# Altium footprint library 按键.PcbLib: 69 footprints (part 4 of 5)
Each footprint in its own frame and in the unit in brackets; x right, y up, seen from the top. Pads: shape width x height; smd on the part's side, far side on the other; paste and mask are expansions set on the pad; w line width, h text height; cw(c..) or ccw(c..) is an arc to the next point about the centre after c.
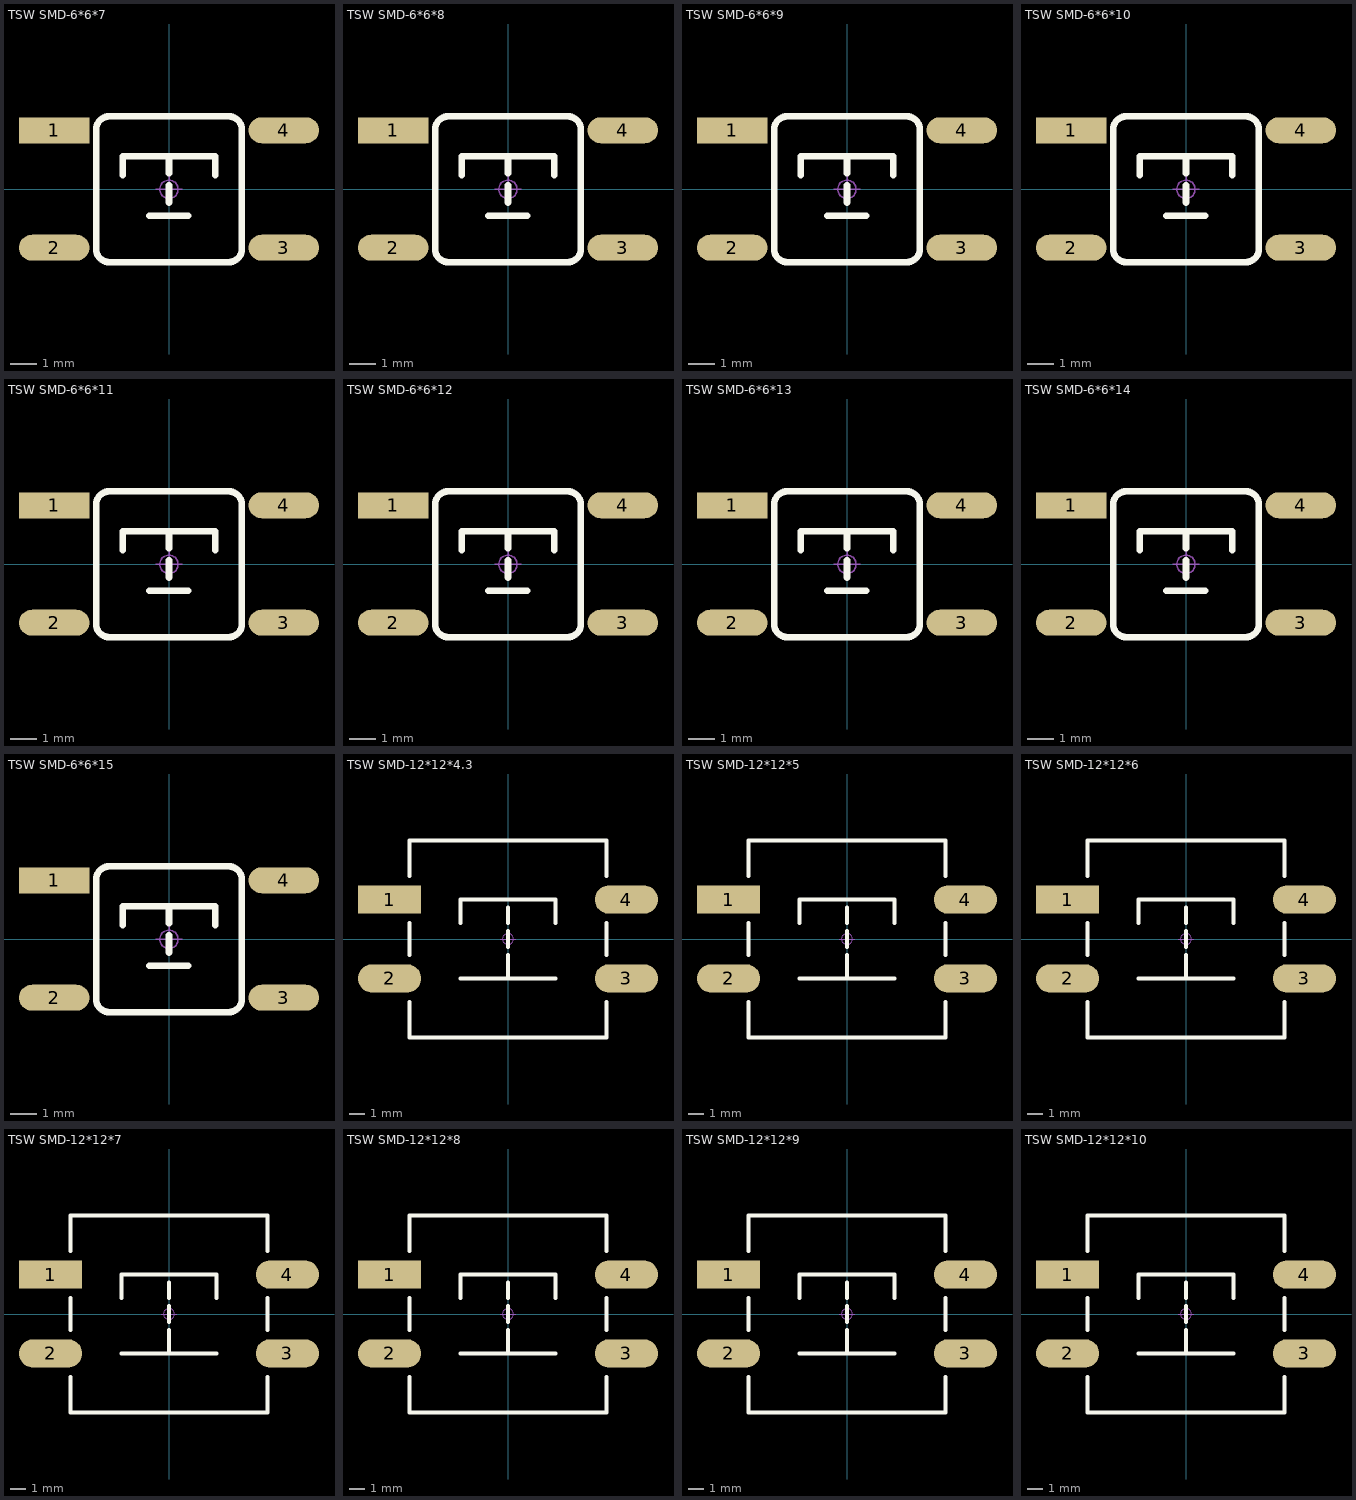
[diagram p3: the footprints below, top view; thin cyan lines are the x and y axes]

## TSW SMD-6*6*7 [mm] "6*6*7mm"
pads (4):
  rect 2.7x1 smd: 1(-4.4,2.261)
  oval 2.7x1 smd: 2(-4.4,-2.239) 3(4.4,-2.239) 4(4.4,2.261)
Top Overlay:
  lines w0.254: -1.778,0.533 -1.778,1.27 1.778,1.27 1.778,0.533 ; -0.762,-1.016 0.737,-1.016 ; 0,-0.508 0,0.152 ; 0,0.61 0,1.27 ; -2.794,-2.286 ccw(c-2.286,-2.286) -2.286,-2.794 2.286,-2.794 ccw(c2.286,-2.286) 2.794,-2.286 2.794,2.286 ccw(c2.286,2.286) 2.286,2.794 -2.286,2.794 ccw(c-2.286,2.286) -2.794,2.286 -2.794,-2.286
Mechanical 15:
  circle w0.05: c0,0 r0.35
  lines w0.05: -0.5,0 0.5,0 ; 0,-0.5 0,0.5
3D body "TSW SMD-6x6x7.STEP": height 6.95, standoff -0.03, extent -4.5,-3 4.5,3

## TSW SMD-6*6*8 [mm] "6*6*8mm"
pads (4):
  rect 2.7x1 smd: 1(-4.4,2.261)
  oval 2.7x1 smd: 2(-4.4,-2.239) 3(4.4,-2.239) 4(4.4,2.261)
Top Overlay:
  lines w0.254: -1.778,0.533 -1.778,1.27 1.778,1.27 1.778,0.533 ; -0.762,-1.016 0.737,-1.016 ; 0,-0.508 0,0.152 ; 0,0.61 0,1.27 ; -2.794,-2.286 ccw(c-2.286,-2.286) -2.286,-2.794 2.286,-2.794 ccw(c2.286,-2.286) 2.794,-2.286 2.794,2.286 ccw(c2.286,2.286) 2.286,2.794 -2.286,2.794 ccw(c-2.286,2.286) -2.794,2.286 -2.794,-2.286
Mechanical 15:
  circle w0.05: c0,0 r0.35
  lines w0.05: -0.5,0 0.5,0 ; 0,-0.5 0,0.5
3D body "TSW SMD-6x6x8.STEP": height 7.95, standoff -0.03, extent -4.5,-3 4.5,3

## TSW SMD-6*6*9 [mm] "6*6*9mm"
pads (4):
  rect 2.7x1 smd: 1(-4.4,2.261)
  oval 2.7x1 smd: 2(-4.4,-2.239) 3(4.4,-2.239) 4(4.4,2.261)
Top Overlay:
  lines w0.254: -1.778,0.533 -1.778,1.27 1.778,1.27 1.778,0.533 ; -0.762,-1.016 0.737,-1.016 ; 0,-0.508 0,0.152 ; 0,0.61 0,1.27 ; -2.794,-2.286 ccw(c-2.286,-2.286) -2.286,-2.794 2.286,-2.794 ccw(c2.286,-2.286) 2.794,-2.286 2.794,2.286 ccw(c2.286,2.286) 2.286,2.794 -2.286,2.794 ccw(c-2.286,2.286) -2.794,2.286 -2.794,-2.286
Mechanical 15:
  circle w0.05: c0,0 r0.35
  lines w0.05: -0.5,0 0.5,0 ; 0,-0.5 0,0.5
3D body "TSW SMD-6x6x9.STEP": height 8.95, standoff -0.03, extent -4.5,-3 4.5,3

## TSW SMD-6*6*10 [mm] "6*6*10mm"
pads (4):
  rect 2.7x1 smd: 1(-4.4,2.261)
  oval 2.7x1 smd: 2(-4.4,-2.239) 3(4.4,-2.239) 4(4.4,2.261)
Top Overlay:
  lines w0.254: -1.778,0.533 -1.778,1.27 1.778,1.27 1.778,0.533 ; -0.762,-1.016 0.737,-1.016 ; 0,-0.508 0,0.152 ; 0,0.61 0,1.27 ; -2.794,-2.286 ccw(c-2.286,-2.286) -2.286,-2.794 2.286,-2.794 ccw(c2.286,-2.286) 2.794,-2.286 2.794,2.286 ccw(c2.286,2.286) 2.286,2.794 -2.286,2.794 ccw(c-2.286,2.286) -2.794,2.286 -2.794,-2.286
Mechanical 15:
  circle w0.05: c0,0 r0.35
  lines w0.05: -0.5,0 0.5,0 ; 0,-0.5 0,0.5
3D body "TSW SMD-6x6x10.STEP": height 9.95, standoff -0.03, extent -4.5,-3 4.5,3

## TSW SMD-6*6*11 [mm] "6*6*11mm"
pads (4):
  rect 2.7x1 smd: 1(-4.4,2.261)
  oval 2.7x1 smd: 2(-4.4,-2.239) 3(4.4,-2.239) 4(4.4,2.261)
Top Overlay:
  lines w0.254: -1.778,0.533 -1.778,1.27 1.778,1.27 1.778,0.533 ; -0.762,-1.016 0.737,-1.016 ; 0,-0.508 0,0.152 ; 0,0.61 0,1.27 ; -2.794,-2.286 ccw(c-2.286,-2.286) -2.286,-2.794 2.286,-2.794 ccw(c2.286,-2.286) 2.794,-2.286 2.794,2.286 ccw(c2.286,2.286) 2.286,2.794 -2.286,2.794 ccw(c-2.286,2.286) -2.794,2.286 -2.794,-2.286
Mechanical 15:
  circle w0.05: c0,0 r0.35
  lines w0.05: -0.5,0 0.5,0 ; 0,-0.5 0,0.5
3D body "TSW SMD-6x6x11.STEP": height 10.95, standoff -0.03, extent -4.5,-3 4.5,3

## TSW SMD-6*6*12 [mm] "6*6*12mm"
pads (4):
  rect 2.7x1 smd: 1(-4.4,2.261)
  oval 2.7x1 smd: 2(-4.4,-2.239) 3(4.4,-2.239) 4(4.4,2.261)
Top Overlay:
  lines w0.254: -1.778,0.533 -1.778,1.27 1.778,1.27 1.778,0.533 ; -0.762,-1.016 0.737,-1.016 ; 0,-0.508 0,0.152 ; 0,0.61 0,1.27 ; -2.794,-2.286 ccw(c-2.286,-2.286) -2.286,-2.794 2.286,-2.794 ccw(c2.286,-2.286) 2.794,-2.286 2.794,2.286 ccw(c2.286,2.286) 2.286,2.794 -2.286,2.794 ccw(c-2.286,2.286) -2.794,2.286 -2.794,-2.286
Mechanical 15:
  circle w0.05: c0,0 r0.35
  lines w0.05: -0.5,0 0.5,0 ; 0,-0.5 0,0.5
3D body "TSW SMD-6x6x12.STEP": height 11.95, standoff -0.03, extent -4.5,-3 4.5,3

## TSW SMD-6*6*13 [mm] "6*6*13mm"
pads (4):
  rect 2.7x1 smd: 1(-4.4,2.261)
  oval 2.7x1 smd: 2(-4.4,-2.239) 3(4.4,-2.239) 4(4.4,2.261)
Top Overlay:
  lines w0.254: -1.778,0.533 -1.778,1.27 1.778,1.27 1.778,0.533 ; -0.762,-1.016 0.737,-1.016 ; 0,-0.508 0,0.152 ; 0,0.61 0,1.27 ; -2.794,-2.286 ccw(c-2.286,-2.286) -2.286,-2.794 2.286,-2.794 ccw(c2.286,-2.286) 2.794,-2.286 2.794,2.286 ccw(c2.286,2.286) 2.286,2.794 -2.286,2.794 ccw(c-2.286,2.286) -2.794,2.286 -2.794,-2.286
Mechanical 15:
  circle w0.05: c0,0 r0.35
  lines w0.05: -0.5,0 0.5,0 ; 0,-0.5 0,0.5
3D body "TSW SMD-6x6x13.STEP": height 12.95, standoff -0.03, extent -4.5,-3 4.5,3

## TSW SMD-6*6*14 [mm] "6*6*14mm"
pads (4):
  rect 2.7x1 smd: 1(-4.4,2.261)
  oval 2.7x1 smd: 2(-4.4,-2.239) 3(4.4,-2.239) 4(4.4,2.261)
Top Overlay:
  lines w0.254: -1.778,0.533 -1.778,1.27 1.778,1.27 1.778,0.533 ; -0.762,-1.016 0.737,-1.016 ; 0,-0.508 0,0.152 ; 0,0.61 0,1.27 ; -2.794,-2.286 ccw(c-2.286,-2.286) -2.286,-2.794 2.286,-2.794 ccw(c2.286,-2.286) 2.794,-2.286 2.794,2.286 ccw(c2.286,2.286) 2.286,2.794 -2.286,2.794 ccw(c-2.286,2.286) -2.794,2.286 -2.794,-2.286
Mechanical 15:
  circle w0.05: c0,0 r0.35
  lines w0.05: -0.5,0 0.5,0 ; 0,-0.5 0,0.5
3D body "TSW SMD-6x6x14.STEP": height 13.95, standoff -0.03, extent -4.5,-3 4.5,3

## TSW SMD-6*6*15 [mm] "6*6*15mm"
pads (4):
  rect 2.7x1 smd: 1(-4.4,2.261)
  oval 2.7x1 smd: 2(-4.4,-2.239) 3(4.4,-2.239) 4(4.4,2.261)
Top Overlay:
  lines w0.254: -1.778,0.533 -1.778,1.27 1.778,1.27 1.778,0.533 ; -0.762,-1.016 0.737,-1.016 ; 0,-0.508 0,0.152 ; 0,0.61 0,1.27 ; -2.794,-2.286 ccw(c-2.286,-2.286) -2.286,-2.794 2.286,-2.794 ccw(c2.286,-2.286) 2.794,-2.286 2.794,2.286 ccw(c2.286,2.286) 2.286,2.794 -2.286,2.794 ccw(c-2.286,2.286) -2.794,2.286 -2.794,-2.286
Mechanical 15:
  circle w0.05: c0,0 r0.35
  lines w0.05: -0.5,0 0.5,0 ; 0,-0.5 0,0.5
3D body "TSW SMD-6x6x15.STEP": height 14.95, standoff -0.03, extent -4.5,-3 4.5,3

## TSW SMD-12*12*4.3 [mm] "12*12*4.3mm"
pads (4):
  rect 4x1.8 smd: 1(-7.5,2.5)
  oval 4x1.8 smd: 2(-7.5,-2.5) 3(7.5,-2.5) 4(7.5,2.5)
Top Overlay:
  lines w0.254: -6.25,-4 -6.25,-6.25 6.25,-6.25 6.25,-4 ; -6.25,-1 -6.25,1 ; -6.25,4 -6.25,6.25 6.25,6.25 6.25,4 ; -3,-2.5 3,-2.5 ; -3,1 -3,2.5 3,2.5 3,1 ; 0,-2.5 0,-1 ; 0,-0.5 0,0.5 ; 0,1 0,2 ; 6.25,-1 6.25,1
Mechanical 15:
  circle w0.05: c0,0 r0.35
  lines w0.05: -0.5,0 0.5,0 ; 0,-0.5 0,0.5
3D body "TSW SMD-12x12x4.3.STEP": height 4.45, standoff 0, extent -7.6,-6 7.6,6

## TSW SMD-12*12*5 [mm] "12*12*5mm"
pads (4):
  rect 4x1.8 smd: 1(-7.5,2.5)
  oval 4x1.8 smd: 2(-7.5,-2.5) 3(7.5,-2.5) 4(7.5,2.5)
Top Overlay:
  lines w0.254: -6.25,-4 -6.25,-6.25 6.25,-6.25 6.25,-4 ; -6.25,-1 -6.25,1 ; -6.25,4 -6.25,6.25 6.25,6.25 6.25,4 ; -3,-2.5 3,-2.5 ; -3,1 -3,2.5 3,2.5 3,1 ; 0,-2.5 0,-1 ; 0,-0.5 0,0.5 ; 0,1 0,2 ; 6.25,-1 6.25,1
Mechanical 15:
  circle w0.05: c0,0 r0.35
  lines w0.05: -0.5,0 0.5,0 ; 0,-0.5 0,0.5
3D body "TSW SMD-12x12x5.STEP": height 5.15, standoff 0, extent -7.6,-6 7.6,6

## TSW SMD-12*12*6 [mm] "12*12*6mm"
pads (4):
  rect 4x1.8 smd: 1(-7.5,2.5)
  oval 4x1.8 smd: 2(-7.5,-2.5) 3(7.5,-2.5) 4(7.5,2.5)
Top Overlay:
  lines w0.254: -6.25,-4 -6.25,-6.25 6.25,-6.25 6.25,-4 ; -6.25,-1 -6.25,1 ; -6.25,4 -6.25,6.25 6.25,6.25 6.25,4 ; -3,-2.5 3,-2.5 ; -3,1 -3,2.5 3,2.5 3,1 ; 0,-2.5 0,-1 ; 0,-0.5 0,0.5 ; 0,1 0,2 ; 6.25,-1 6.25,1
Mechanical 15:
  circle w0.05: c0,0 r0.35
  lines w0.05: -0.5,0 0.5,0 ; 0,-0.5 0,0.5
3D body "TSW SMD-12x12x6.STEP": height 6.15, standoff 0, extent -7.6,-6 7.6,6

## TSW SMD-12*12*7 [mm] "12*12*7mm"
pads (4):
  rect 4x1.8 smd: 1(-7.5,2.5)
  oval 4x1.8 smd: 2(-7.5,-2.5) 3(7.5,-2.5) 4(7.5,2.5)
Top Overlay:
  lines w0.254: -6.25,-4 -6.25,-6.25 6.25,-6.25 6.25,-4 ; -6.25,-1 -6.25,1 ; -6.25,4 -6.25,6.25 6.25,6.25 6.25,4 ; -3,-2.5 3,-2.5 ; -3,1 -3,2.5 3,2.5 3,1 ; 0,-2.5 0,-1 ; 0,-0.5 0,0.5 ; 0,1 0,2 ; 6.25,-1 6.25,1
Mechanical 15:
  circle w0.05: c0,0 r0.35
  lines w0.05: -0.5,0 0.5,0 ; 0,-0.5 0,0.5
3D body "TSW SMD-12x12x7.STEP": height 7.15, standoff 0, extent -7.6,-6 7.6,6

## TSW SMD-12*12*8 [mm] "12*12*8mm"
pads (4):
  rect 4x1.8 smd: 1(-7.5,2.5)
  oval 4x1.8 smd: 2(-7.5,-2.5) 3(7.5,-2.5) 4(7.5,2.5)
Top Overlay:
  lines w0.254: -6.25,-4 -6.25,-6.25 6.25,-6.25 6.25,-4 ; -6.25,-1 -6.25,1 ; -6.25,4 -6.25,6.25 6.25,6.25 6.25,4 ; -3,-2.5 3,-2.5 ; -3,1 -3,2.5 3,2.5 3,1 ; 0,-2.5 0,-1 ; 0,-0.5 0,0.5 ; 0,1 0,2 ; 6.25,-1 6.25,1
Mechanical 15:
  circle w0.05: c0,0 r0.35
  lines w0.05: -0.5,0 0.5,0 ; 0,-0.5 0,0.5
3D body "TSW SMD-12x12x8.STEP": height 8.15, standoff 0, extent -7.6,-6 7.6,6

## TSW SMD-12*12*9 [mm] "12*12*9mm"
pads (4):
  rect 4x1.8 smd: 1(-7.5,2.5)
  oval 4x1.8 smd: 2(-7.5,-2.5) 3(7.5,-2.5) 4(7.5,2.5)
Top Overlay:
  lines w0.254: -6.25,-4 -6.25,-6.25 6.25,-6.25 6.25,-4 ; -6.25,-1 -6.25,1 ; -6.25,4 -6.25,6.25 6.25,6.25 6.25,4 ; -3,-2.5 3,-2.5 ; -3,1 -3,2.5 3,2.5 3,1 ; 0,-2.5 0,-1 ; 0,-0.5 0,0.5 ; 0,1 0,2 ; 6.25,-1 6.25,1
Mechanical 15:
  circle w0.05: c0,0 r0.35
  lines w0.05: -0.5,0 0.5,0 ; 0,-0.5 0,0.5
3D body "TSW SMD-12x12x9.STEP": height 9.15, standoff 0, extent -7.6,-6 7.6,6

## TSW SMD-12*12*10 [mm] "12*12*10mm"
pads (4):
  rect 4x1.8 smd: 1(-7.5,2.5)
  oval 4x1.8 smd: 2(-7.5,-2.5) 3(7.5,-2.5) 4(7.5,2.5)
Top Overlay:
  lines w0.254: -6.25,-4 -6.25,-6.25 6.25,-6.25 6.25,-4 ; -6.25,-1 -6.25,1 ; -6.25,4 -6.25,6.25 6.25,6.25 6.25,4 ; -3,-2.5 3,-2.5 ; -3,1 -3,2.5 3,2.5 3,1 ; 0,-2.5 0,-1 ; 0,-0.5 0,0.5 ; 0,1 0,2 ; 6.25,-1 6.25,1
Mechanical 15:
  circle w0.05: c0,0 r0.35
  lines w0.05: -0.5,0 0.5,0 ; 0,-0.5 0,0.5
3D body "TSW SMD-12x12x10.STEP": height 10.15, standoff 0, extent -7.6,-6 7.6,6